# Altium footprint library L50T-TEST.PcbLib: 28 footprints (part 2 of 2)
Each footprint in its own frame and in the unit in brackets; x right, y up, seen from the top. Pads: shape width x height; smd on the part's side, far side on the other; paste and mask are expansions set on the pad; w line width, h text height; cw(c..) or ccw(c..) is an arc to the next point about the centre after c.
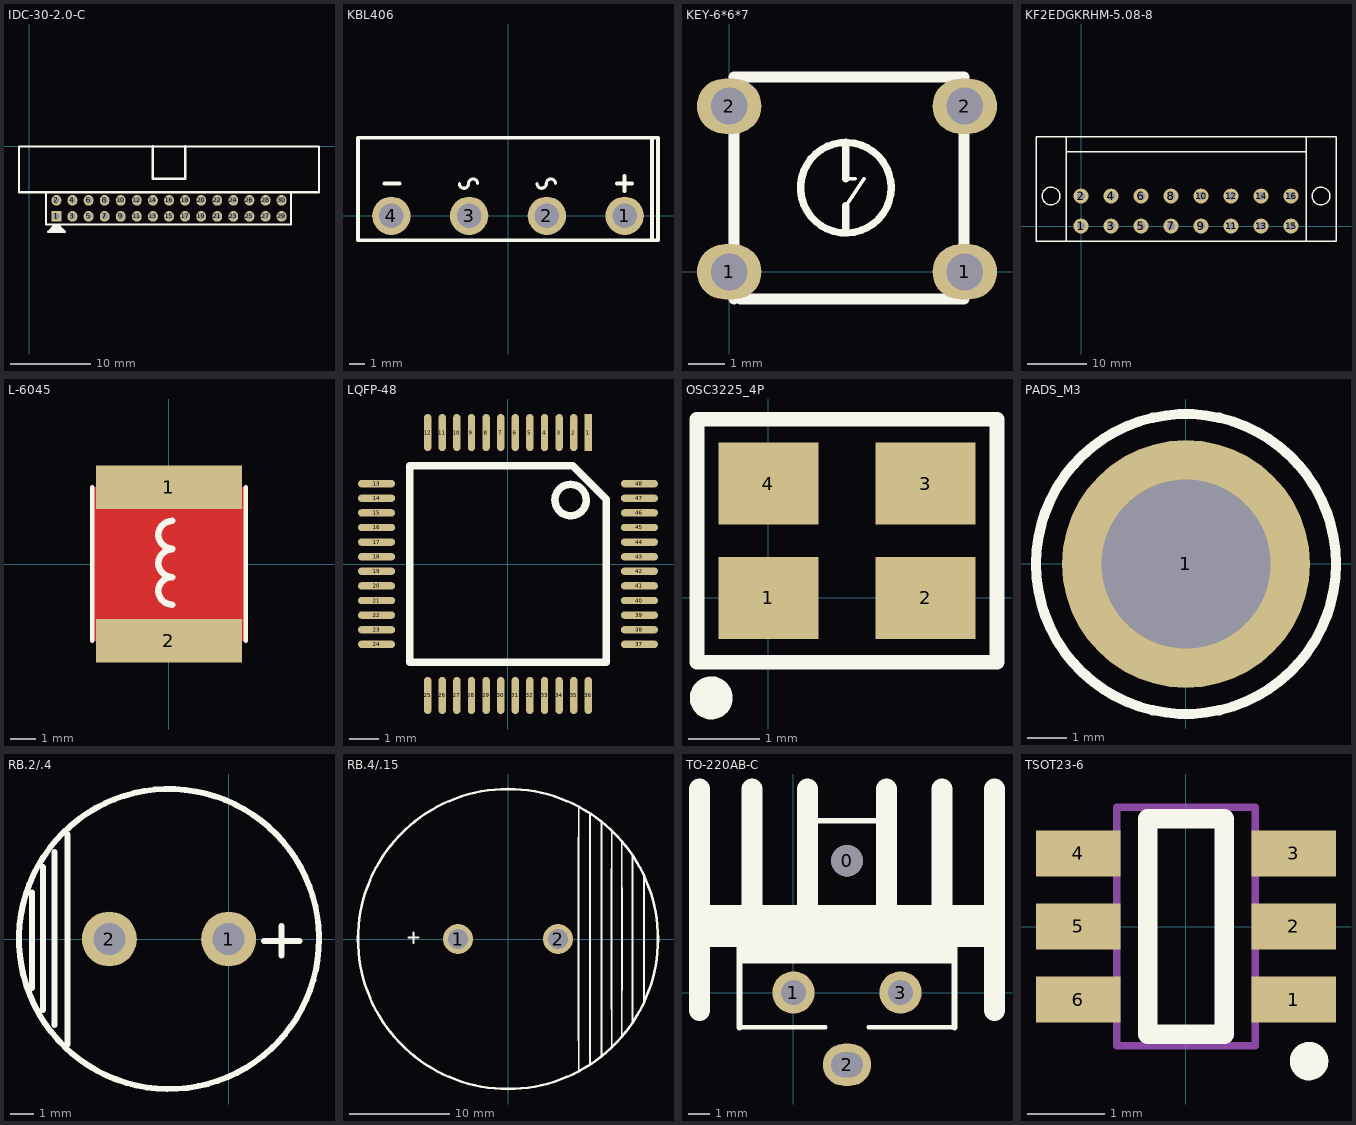
[diagram p1: the footprints below, top view; thin cyan lines are the x and y axes]

## IDC-30-2.0-C [mm]
pads (30):
  rect 1.219x1.321 hole 0.8: 1(3.38,-8.7)
  oval 1.219x1.321 hole 0.8: 2(3.38,-6.7) 3(5.38,-8.7) 4(5.38,-6.7) 5(7.38,-8.7) 6(7.38,-6.7) 7(9.38,-8.7) 8(9.38,-6.7) 9(11.38,-8.7) 10(11.38,-6.7) 11(13.38,-8.7) 12(13.38,-6.7) 13(15.38,-8.7) 14(15.38,-6.7) 15(17.38,-8.7) 16(17.38,-6.7) 17(19.38,-8.7) 18(19.38,-6.7) 19(21.38,-8.7) 20(21.38,-6.7) 21(23.38,-8.7) 22(23.38,-6.7) 23(25.38,-8.7) 24(25.38,-6.7) 25(27.38,-8.7) 26(27.38,-6.7) 27(29.38,-8.7) 28(29.38,-6.7) 29(31.38,-8.7) 30(31.38,-6.7)
Top Overlay:
  lines w0.254: -1.27,-5.7 36.03,-5.7 ; -1.27,-5.684 -1.27,0.016 ; -1.27,0 36.03,0 ; 2.115,-9.716 32.557,-9.716 ; 2.115,-9.656 2.115,-5.7 ; 32.557,-9.71 32.557,-5.7 ; 36.03,-5.684 36.03,0.016
  lines w0.305: 2.745,-10.351 4.142,-10.351 4.269,-10.478 ; 2.808,-10.16 3.951,-10.16 ; 2.999,-9.97 3.634,-9.97 ; 15.38,0 15.38,-4 19.38,-4 19.38,0 ; 2.364,-10.605 3.253,-9.716 3.507,-9.716 4.396,-10.605 4.015,-10.605 2.364,-10.605

## KBL406 [mm]
pads (4):
  round 2.5 hole 1.6: 1(7.62,0) 2(2.54,0) 3(-2.54,0) 4(-7.62,0)
Top Overlay:
  lines w0.203: -3.18,2.1 ccw(c-2.88,2.1) -2.58,2.1 cw(c-2.28,2.1) -1.98,2.1 ; 1.9,2.1 ccw(c2.2,2.1) 2.5,2.1 cw(c2.8,2.1) 3.1,2.1
  lines w0.254: -8.08,2.1 -7.08,2.1 ; 7.12,2.1 8.12,2.1 ; 7.62,1.6 7.62,2.6 ; 9.4,-1.5 9.4,5.1 ; -9.8,-1.6 -9.8,5.1 9.8,5.1 9.8,-1.6 -9.8,-1.6

## KEY-6*6*7 [mil]
height 275.59
pads (4):
  oval 70x60 hole 40: 1(0,0) 1(255.91,0) 2(0,180) 2(255.91,180)
Top Overlay:
  circle w8: c126.73,91.39 r49.21
  lines w4: 126.73,71.71 146.42,101.24 ; 126.73,101.24 136.57,101.24
  lines w8: 126.73,42.18 126.73,71.71 ; 126.73,101.23 126.73,140.61
  lines w12: 5.32,-29.47 5.32,211.47 255,211.47 255,-29.47 12.21,-29.47

## KF2EDGKRHM-5.08-8 [mil]
pads (16):
  round 100 hole 56: 1(0,0) 2(0,200) 3(200,0) 4(200,200) 5(400,0) 6(400,200) 7(600,0) 8(600,200) 9(800,0) 10(800,200) 11(1000,0) 12(1000,200) 13(1200,0) 14(1200,200) 15(1400,0) 16(1400,200)
Top Overlay:
  circle w10: c-200,200 r59.06
  circle w10: c1600,200 r59.06
  lines w10: -100,493.7 1500,493.7 ; -100,-100 1500,-100 ; -100,-100 -100,593.7 ; -100,-100 -300,-100 -300,593.7 -100,593.7 ; -100,593.7 1500,593.7 ; 1500,-100 1500,593.7 ; 1500,-100 1700,-100 1700,593.7 1500,593.7

## L-6045 [mm]
height 4.5
pads (2):
  rect 5.7x1.7 smd: 1(0,3) 2(0,-3)
Top Layer:
  pour cut-out: -3,-3 -3,3 3,3 3,-3
Top Overlay:
  lines w0.178: -3,-3 -3,3 ; 3,-3 3,3
  lines w0.254: 0.127,-1.586 cw(c0.127,-1.047) 0.127,-0.508 cw(c0.127,0.031) 0.127,0.57 ; 0.127,0.604 cw(c0.127,1.143) 0.127,1.682

## LQFP-48 [mm]
pads (48):
  rect 0.254x1.27 smd: 1(2.75,4.5)
  oval 0.254x1.27 smd: 2(2.25,4.5) 3(1.75,4.5) 4(1.25,4.5) 5(0.75,4.5) 6(0.25,4.5) 7(-0.25,4.5) 8(-0.75,4.5) 9(-1.25,4.5) 10(-1.75,4.5) 11(-2.25,4.5) 12(-2.75,4.5) 25(-2.75,-4.5) 26(-2.25,-4.5) 27(-1.75,-4.5) 28(-1.25,-4.5) 29(-0.75,-4.5) 30(-0.25,-4.5) 31(0.25,-4.5) 32(0.75,-4.5) 33(1.25,-4.5) 34(1.75,-4.5) 35(2.25,-4.5) 36(2.75,-4.5)
  oval 1.27x0.254 smd: 13(-4.5,2.75) 14(-4.5,2.25) 15(-4.5,1.75) 16(-4.5,1.25) 17(-4.5,0.75) 18(-4.5,0.25) 19(-4.5,-0.25) 20(-4.5,-0.75) 21(-4.5,-1.25) 22(-4.5,-1.75) 23(-4.5,-2.25) 24(-4.5,-2.75) 37(4.5,-2.75) 38(4.5,-2.25) 39(4.5,-1.75) 40(4.5,-1.25) 41(4.5,-0.75) 42(4.5,-0.25) 43(4.5,0.25) 44(4.5,0.75) 45(4.5,1.25) 46(4.5,1.75) 47(4.5,2.25) 48(4.5,2.75)
Top Overlay:
  lines w0.254: 2.191,1.655 cw(c2.143,2.189) 2.279,1.671 ; -3.357,-3.357 3.357,-3.357 3.357,2.214 2.214,3.357 -3.357,3.357 -3.357,-3.357

## OSC3225_4P [mm]
pads (4):
  rect 1.4x1.15 smd: 1(0,0) 2(2.2,0) 3(2.2,1.6) 4(0,1.6)
Top Overlay:
  circle w0.3: c-0.8,-1.4 r0.15
  lines w0.203: -1,-0.9 3.2,-0.9 3.2,2.5 -1,2.5 -1,-0.9
3D body "User Library-3225-1.STEP": height 0.61, standoff 0, extent -0.5,-0.45 2.7,2.05

## PADS_M3 [mm]
pads (1):
  round 6.2 hole 4.22: 1(0,0)
Top Overlay:
  circle w0.254: c0,0 r3.752

## RB.2/.4 [mil]
height 590.55
pads (2):
  round 92 hole 54: 1(0,0) 2(-200,0)
Top Overlay:
  lines w10: -330,-82 -330,78 ; -311,-119 -311,121 ; -292,-144 -292,146 ; -270,-177 -270,175 ; 59,-3 119,-3 ; 89,-28 89,22 ; 151.57,4.01 ccw(c-100,0) 151.6,0
3D body "User Library-CAP_Electrolytic_10X20.STEP": height 791.34, standoff -185.83, extent -296.85,-196.42 96.35,196.42

## RB.4/.15 [mm]
height 30
pads (2):
  round 3 hole 2: 1(-5,0) 2(5,0)
Top Overlay:
  circle w0.254: c0,0 r15
  lines w0.178: 7.065,-13.128 7.065,-10.16 ; 7.065,10.16 7.065,13.161 ; 8.208,-12.526 8.208,-9.271 ; 8.208,9.271 8.208,12.526 ; 9.351,-11.604 9.351,-8.128 ; 9.351,8.255 9.351,11.764 ; 10.367,-10.748 10.367,-6.985 ; 10.367,6.985 10.367,10.748 ; 11.383,-9.605 11.383,-5.08 ; 11.383,5.08 11.383,9.699 ; 12.446,-8.255 12.446,8.255 ; 13.589,-6.223 13.589,6.223
  lines w0.2: -9.953,0.127 -8.937,0.127 ; -9.445,-0.381 -9.445,0.635 ; 7.065,-10.16 7.065,10.16 ; 8.208,-9.271 8.208,9.271 ; 9.351,-8.255 9.351,8.255 ; 10.367,-6.985 10.367,6.985 ; 11.383,-5.08 11.383,5.08

## TO-220AB-C [mm]
height 25
pads (4):
  round 1.5 hole 1.5: 0(2.54,6.258)
  round 2 hole 1.2: 1(0,0) 3(5.08,0)
  oval 2.3x2 hole 1.2 slot 1.5 at 0 deg: 2(2.54,-3.429)
Top Overlay:
  lines w0.203: -2.56,-1.651 1.524,-1.651 ; 3.556,-1.651 7.64,-1.651
  lines w0.254: 0.29,8.158 4.79,8.158
  lines w0.305: -2.56,-1.651 -2.56,2.849 7.62,2.849 ; -2.52,1.524 7.64,1.524 ; -2.52,1.778 7.64,1.778 ; -2.52,2.032 7.64,2.032 ; -2.52,2.286 7.64,2.286 ; -2.52,2.413 7.64,2.413 ; -2.52,2.667 7.64,2.667 ; 7.64,-1.651 7.64,2.849
  lines w1: -4.46,-0.842 -4.46,9.658 ; -1.96,3.158 -1.96,9.658 ; 0.655,3.158 0.655,9.658 ; 4.425,3.158 4.425,9.658 ; 7.04,3.158 7.04,9.658 ; 9.54,-0.842 9.54,9.658
  lines w2: -3.912,3.158 8.941,3.158

## TSOT23-6 [mm]
pads (6):
  rect 1.1x0.6 smd: 1(1.4,-0.95) 2(1.4,0) 3(1.4,0.95) 4(-1.4,0.95) 5(-1.4,0) 6(-1.4,-0.95)
Top Overlay:
  circle w0.25: c1.6,-1.75 r0.125
  lines w0.254: -0.5,-1.4 0.5,-1.4 0.5,1.4 -0.5,1.4 -0.5,-1.4
Mechanical 13:
  lines w0.1: -0.9,-1.55 0.9,-1.55 0.9,1.55 -0.9,1.55 -0.9,-1.55